# Altium footprint library NT3H1101W0FHKH.PcbLib: 1 footprints
Each footprint in its own frame and in the unit in brackets; x right, y up, seen from the top. Pads: shape width x height; smd on the part's side, far side on the other; paste and mask are expansions set on the pad; w line width, h text height; cw(c..) or ccw(c..) is an arc to the next point about the centre after c.
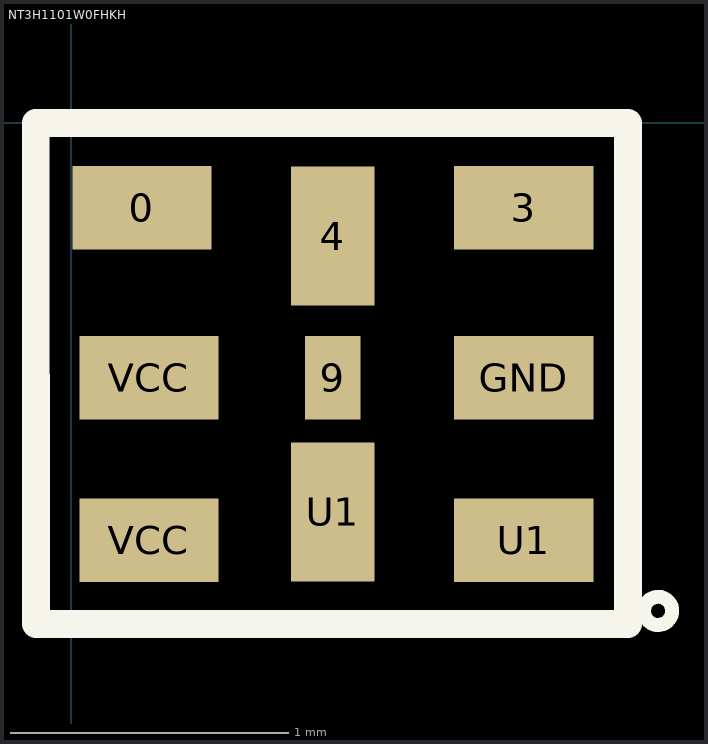
[diagram p0: the footprint, top view; thin cyan lines are the x and y axes]

## NT3H1101W0FHKH [mm]
pads (9):
  rect 0.5x0.3 smd: 0(0.254,-0.305) 3(1.626,-0.305) GND(1.626,-0.914) U1(1.626,-1.499) VCC(0.279,-1.499) VCC(0.279,-0.914)
  rect 0.3x0.5 smd: 4(0.94,-0.406) U1(0.94,-1.397)
  rect 0.2x0.3 smd: 9(0.94,-0.914)
Top Overlay:
  circle w0.05: c2.108,-1.753 r0.051
  lines w0.1: -0.127,-1.8 -0.127,0 2,0 2,-1.8 -0.127,-1.8